# Altium footprint library Robsense_lxxu.PcbLib: 67 footprints (part 4 of 5)
Each footprint in its own frame and in the unit in brackets; x right, y up, seen from the top. Pads: shape width x height; smd on the part's side, far side on the other; paste and mask are expansions set on the pad; w line width, h text height; cw(c..) or ccw(c..) is an arc to the next point about the centre after c.
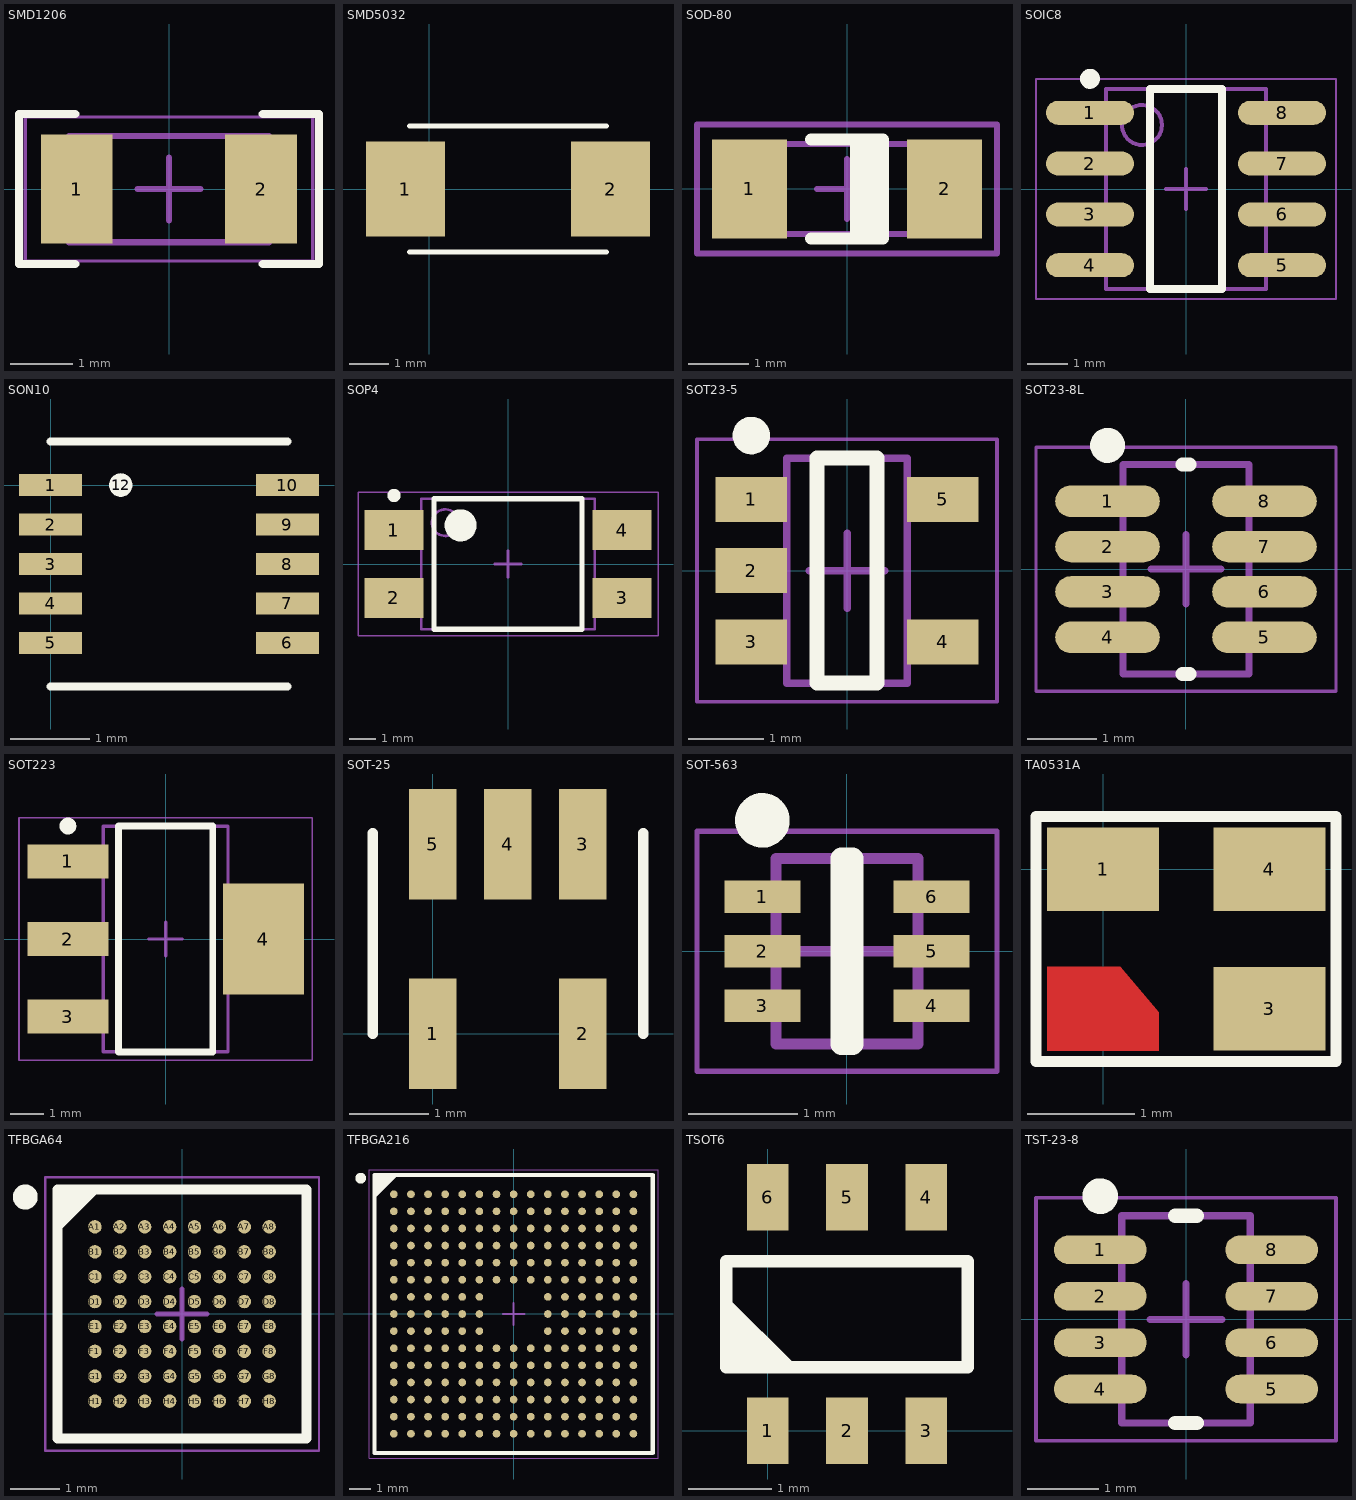
[diagram p3: the footprints below, top view; thin cyan lines are the x and y axes]

## SMD1206 [mm] "Chip Resistor, 2-Leads, Body 3.10x1.55mm, IPC Medium Density"
height 0.7
pads (2):
  rect 1.15x1.75 smd: 1(-1.475,0) 2(1.475,0)
Top Overlay:
  lines w0.13: -1.5,-1.2 -2.4,-1.2 -2.4,1.2 -1.5,1.2 ; 1.5,-1.2 2.4,-1.2 2.4,1.2 1.5,1.2
Mechanical 13:
  lines w0.1: -1.6,-0.85 -1.6,0.85 1.6,0.85 1.6,-0.85 -1.6,-0.85
Mechanical 15:
  lines w0.05: -2.3,-1.15 -2.3,1.15 2.3,1.15 2.3,-1.15 -2.3,-1.15
  lines w0.1: -0.5,0 0.5,0 ; 0,-0.5 0,0.5
3D body: height 0.7, standoff 0, extent -1.15,-0.85 1.15,0.85
3D body: height 0.7, standoff 0, extent -1.6,-0.85 -1.15,0.85
3D body: height 0.7, standoff 0, extent 1.15,-0.85 1.6,0.85

## SMD5032 [mm]
pads (2):
  rect 2x2.4 smd: 1(-0.6,0) 2(4.6,0)
Top Overlay:
  lines w0.13: -0.5,-1.6 4.5,-1.6 ; -0.5,1.6 4.5,1.6
3D body: height 1, standoff 0.1, extent -0.508,-1.651 4.572,1.651

## SOD-80 [mm] "MELF Diode, 2-Leads, Body 3.5x1.4mm, IPC Medium Density"
height 1.5
pads (2):
  rect 1.25x1.65 smd: 1(-1.625,0) 2(1.625,0)
Top Overlay:
  rectangle: 0.05,-0.825 0.6,0.825
  lines w0.2: -0.6,-0.825 0.6,-0.825 0.6,0.825 -0.6,0.825
Mechanical 13:
  rectangle: 1.352,-0.75 1.85,0.75
  lines w0.1: -1.85,-0.75 1.85,-0.75 1.85,0.75 -1.85,0.75 -1.85,-0.75
Mechanical 15:
  lines w0.1: -0.5,0 0.5,0 ; 0,-0.5 0,0.5 ; -2.5,-1.075 2.5,-1.075 2.5,1.075 -2.5,1.075 -2.5,-1.075
3D body: height 1.5, standoff 0, extent -1.85,-0.75 1.85,0.75

## SOIC8 [mm] "SOIC, 8-Leads, Body 4.90x3.90mm, Pitch 1.27mm, IPC Medium Density"
height 1.5
pads (8):
  oval 2.2x0.6 smd: 1(-2.4,1.905) 2(-2.4,0.635) 3(-2.4,-0.635) 4(-2.4,-1.905) 5(2.4,-1.905) 6(2.4,-0.635) 7(2.4,0.635) 8(2.4,1.905)
Top Overlay:
  circle w0.25: c-2.4,2.755 r0.125
  lines w0.2: -0.9,-2.5 -0.9,2.5 0.9,2.5 0.9,-2.5 -0.9,-2.5
Mechanical 13:
  circle w0.1: c-1.1,1.6 r0.5
  lines w0.1: -2,-2.5 -2,2.5 2,2.5 2,-2.5 -2,-2.5
Mechanical 15:
  lines w0.05: -3.75,-2.75 -3.75,2.75 3.75,2.75 3.75,-2.75 -3.75,-2.75
  lines w0.1: -0.5,0 0.5,0 ; 0,-0.5 0,0.5
3D body: height 1.5, standoff 0.1, extent -2,-2.5 2,2.5

## SON10 [mm]
pads (11):
  rect 0.8x0.28 smd: 1(0,0) 2(0,-0.5) 3(0,-1) 4(0,-1.5) 5(0,-2) 6(3,-2) 7(3,-1.5) 8(3,-1) 9(3,-0.5) 10(3,0)
  round 0.3 on Top Overlay: 12(0.889,0)
Top Overlay:
  lines w0.1: 0,-2.55 3,-2.55 ; 0,0.55 3,0.55
3D body: height 0.8, standoff 0.1, extent 0,-2.54 3.048,0.635

## SOP4 [mm]
height 4
pads (4):
  rect 2.2x1.5 smd: 1(-4.275,1.27) 2(-4.275,-1.27) 3(4.275,-1.27) 4(4.275,1.27)
Top Overlay:
  circle w0.6: c-1.775,1.45 r0.3
  circle w0.25: c-4.275,2.57 r0.125
  lines w0.2: -2.775,-2.45 2.775,-2.45 2.775,2.45 -2.775,2.45 -2.775,-2.45
Mechanical 13:
  circle w0.1: c-2.35,1.55 r0.5
  lines w0.1: -3.25,-2.45 3.25,-2.45 3.25,2.45 -3.25,2.45 -3.25,-2.45
Mechanical 15:
  lines w0.05: -5.625,-2.7 5.625,-2.7 5.625,2.7 -5.625,2.7 -5.625,-2.7
  lines w0.1: -0.5,0 0.5,0 ; 0,-0.5 0,0.5
3D body: height 4, standoff 0.2, extent -3.25,-2.45 3.25,2.45

## SOT23-5 [mm] "SOT23, 5-Leads, Body 2.90x2.80mm, Pitch 0.95mm, IPC Medium Density"
height 1.4
pads (5):
  rect 0.95x0.6 smd: 1(-1.275,0.95) 2(-1.275,0) 3(-1.275,-0.95) 4(1.275,-0.95) 5(1.275,0.95)
Top Overlay:
  circle w0.25: c-1.275,1.8 r0.125
  lines w0.2: -0.4,-1.5 -0.4,1.5 0.4,1.5 0.4,-1.5 -0.4,-1.5
Mechanical 13:
  lines w0.1: -0.805,-1.5 0.805,-1.5 0.805,1.5 -0.805,1.5 -0.805,-1.5
Mechanical 15:
  lines w0.05: -2,-1.75 2,-1.75 2,1.75 -2,1.75 -2,-1.75
  lines w0.1: -0.5,0 0.5,0 ; 0,-0.5 0,0.5
3D body: height 1.4, standoff 0.2, extent -0.805,-1.5 0.805,1.5

## SOT23-8L [mm] "TSOP, 8-Leads, Body 2.90x1.63mm, Pitch 0.65mm, IPC Medium Density"
height 1.1
pads (8):
  oval 1.5x0.45 smd: 1(-1.125,0.975) 2(-1.125,0.325) 3(-1.125,-0.325) 4(-1.125,-0.975) 5(1.125,-0.975) 6(1.125,-0.325) 7(1.125,0.325) 8(1.125,0.975)
Top Overlay:
  circle w0.25: c-1.125,1.775 r0.125
  lines w0.2: -0.05,-1.5 0.05,-1.5 ; -0.05,1.5 0.05,1.5
Mechanical 13:
  lines w0.1: -0.9,-1.5 0.9,-1.5 0.9,1.5 -0.9,1.5 -0.9,-1.5
Mechanical 15:
  lines w0.05: -2.15,-1.75 2.15,-1.75 2.15,1.75 -2.15,1.75 -2.15,-1.75
  lines w0.1: -0.5,0 0.5,0 ; 0,-0.5 0,0.5
3D body: height 1.1, standoff 0.1, extent -0.9,-1.5 0.9,1.5

## SOT223 [mm] "SOT223, 4-Leads, Body 6.50x7.00mm (avg), Pitch 2.30mm, IPC Medium Density"
height 1.8
pads (4):
  rect 2.4x1 smd: 1(-2.9,2.3) 2(-2.9,0) 3(-2.9,-2.3)
  rect 2.4x3.3 smd: 4(2.9,0)
Top Overlay:
  circle w0.25: c-2.9,3.35 r0.125
  lines w0.2: -1.4,-3.35 -1.4,3.35 1.4,3.35 1.4,-3.35 -1.4,-3.35
Mechanical 13:
  lines w0.1: -1.85,-3.35 -1.85,3.35 1.85,3.35 1.85,-3.35 -1.85,-3.35
Mechanical 15:
  lines w0.05: -4.35,-3.6 -4.35,3.6 4.35,3.6 4.35,-3.6 -4.35,-3.6
  lines w0.1: -0.5,0 0.5,0 ; 0,-0.5 0,0.5
3D body: height 1.8, standoff 0.02, extent -1.85,-3.35 1.85,3.35

## SOT-25 [mm]
pads (5):
  rect 0.6x1.4 smd: 1(0,0) 2(1.9,0) 3(1.9,2.4) 4(0.95,2.4) 5(0,2.4)
Top Overlay:
  lines w0.13: -0.762,0 -0.762,2.54 ; 2.667,0 2.667,2.54

## SOT-563 [mm] "SOT23, 6-Leads, Body 1.60x1.60mm, Pitch 0.50mm, IPC Medium Density"
height 0.55
pads (6):
  rect 0.7x0.3 smd: 1(-0.775,0.5) 2(-0.775,0) 3(-0.775,-0.5) 4(0.775,-0.5) 5(0.775,0) 6(0.775,0.5)
Top Overlay:
  circle w0.25: c-0.775,1.2 r0.125
  lines w0.2: -0.05,-0.85 0.05,-0.85 0.05,0.85 -0.05,0.85 -0.05,-0.85
Mechanical 13:
  lines w0.1: -0.65,-0.85 -0.65,0.85 0.65,0.85 0.65,-0.85 -0.65,-0.85
Mechanical 15:
  lines w0.05: -1.375,-1.1 -1.375,1.1 1.375,1.1 1.375,-1.1 -1.375,-1.1
  lines w0.1: -0.5,0 0.5,0 ; 0,-0.5 0,0.5
3D body: height 0.55, standoff 0.05, extent -0.65,-0.85 0.65,0.85

## TA0531A [mm]
pads (3):
  rect 1.04x0.78 smd mask+0.1: 1(0,0) 3(1.55,-1.3) 4(1.55,0)
Top Layer:
  region: -0.52,-1.69 0.52,-1.69 0.52,-1.33 0.16,-0.91 -0.52,-0.91
Top Overlay:
  lines w0.1: -0.624,-1.79 -0.624,0.49 ; -0.62,-1.79 2.17,-1.79 2.17,0.49 -0.62,0.49

## TFBGA64 [mm]
height 1
pads (64):
  round 0.27 smd: A1(-1.75,1.75) A2(-1.25,1.75) A3(-0.75,1.75) A4(-0.25,1.75) A5(0.25,1.75) A6(0.75,1.75) A7(1.25,1.75) A8(1.75,1.75) B1(-1.75,1.25) B2(-1.25,1.25) B3(-0.75,1.25) B4(-0.25,1.25) B5(0.25,1.25) B6(0.75,1.25) B7(1.25,1.25) B8(1.75,1.25) C1(-1.75,0.75) C2(-1.25,0.75) C3(-0.75,0.75) C4(-0.25,0.75) C5(0.25,0.75) C6(0.75,0.75) C7(1.25,0.75) C8(1.75,0.75) D1(-1.75,0.25) D2(-1.25,0.25) D3(-0.75,0.25) D4(-0.25,0.25) D5(0.25,0.25) D6(0.75,0.25) D7(1.25,0.25) D8(1.75,0.25) E1(-1.75,-0.25) E2(-1.25,-0.25) E3(-0.75,-0.25) E4(-0.25,-0.25) E5(0.25,-0.25) E6(0.75,-0.25) E7(1.25,-0.25) E8(1.75,-0.25) F1(-1.75,-0.75) F2(-1.25,-0.75) F3(-0.75,-0.75) F4(-0.25,-0.75) F5(0.25,-0.75) F6(0.75,-0.75) F7(1.25,-0.75) F8(1.75,-0.75) G1(-1.75,-1.25) G2(-1.25,-1.25) G3(-0.75,-1.25) G4(-0.25,-1.25) G5(0.25,-1.25) G6(0.75,-1.25) G7(1.25,-1.25) G8(1.75,-1.25) H1(-1.75,-1.75) H2(-1.25,-1.75) H3(-0.75,-1.75) H4(-0.25,-1.75) H5(0.25,-1.75) H6(0.75,-1.75) H7(1.25,-1.75) H8(1.75,-1.75)
Top Overlay:
  circle w0.25: c-3.15,2.35 r0.125
  region: -1.757,2.5 -2.5,1.757 -2.5,2.5
  lines w0.2: -2.5,1.757 -1.757,2.5 ; -2.5,-2.5 2.5,-2.5 2.5,2.5 -2.5,2.5 -2.5,-2.5
Mechanical 13:
  lines w0.1: -2.5,-2.5 2.5,-2.5 2.5,2.5 -2.5,2.5 -2.5,-2.5
Mechanical 15:
  lines w0.05: -2.75,-2.75 2.75,-2.75 2.75,2.75 -2.75,2.75 -2.75,-2.75
  lines w0.1: -0.5,0 0.5,0 ; 0,-0.5 0,0.5
3D body: height 1, standoff 0.2, extent -2.5,-2.5 2.5,2.5

## TFBGA216 [mm] "BGA, 225-Leads, Body 13.00x13.00mmx1.00mm, Pitch 0.80mm"
height 1
pads (216):
  round 0.36 smd: A1(-5.6,5.6) A2(-4.8,5.6) A3(-4,5.6) A4(-3.2,5.6) A5(-2.4,5.6) A6(-1.6,5.6) A7(-0.8,5.6) A8(0,5.6) A9(0.8,5.6) A10(1.6,5.6) A11(2.4,5.6) A12(3.2,5.6) A13(4,5.6) A14(4.8,5.6) A15(5.6,5.6) B1(-5.6,4.8) B2(-4.8,4.8) B3(-4,4.8) B4(-3.2,4.8) B5(-2.4,4.8) B6(-1.6,4.8) B7(-0.8,4.8) B8(0,4.8) B9(0.8,4.8) B10(1.6,4.8) B11(2.4,4.8) B12(3.2,4.8) B13(4,4.8) B14(4.8,4.8) B15(5.6,4.8) C1(-5.6,4) C2(-4.8,4) C3(-4,4) C4(-3.2,4) C5(-2.4,4) C6(-1.6,4) C7(-0.8,4) C8(0,4) C9(0.8,4) C10(1.6,4) C11(2.4,4) C12(3.2,4) C13(4,4) C14(4.8,4) C15(5.6,4) D1(-5.6,3.2) D2(-4.8,3.2) D3(-4,3.2) D4(-3.2,3.2) D5(-2.4,3.2) D6(-1.6,3.2) D7(-0.8,3.2) D8(0,3.2) D9(0.8,3.2) D10(1.6,3.2) D11(2.4,3.2) D12(3.2,3.2) D13(4,3.2) D14(4.8,3.2) D15(5.6,3.2) E1(-5.6,2.4) E2(-4.8,2.4) E3(-4,2.4) E4(-3.2,2.4) E5(-2.4,2.4) E6(-1.6,2.4) E7(-0.8,2.4) E8(0,2.4) E9(0.8,2.4) E10(1.6,2.4) E11(2.4,2.4) E12(3.2,2.4) E13(4,2.4) E14(4.8,2.4) E15(5.6,2.4) F1(-5.6,1.6) F2(-4.8,1.6) F3(-4,1.6) F4(-3.2,1.6) F5(-2.4,1.6) F6(-1.6,1.6) F7(-0.8,1.6) F8(0,1.6) F9(0.8,1.6) F10(1.6,1.6) F11(2.4,1.6) F12(3.2,1.6) F13(4,1.6) F14(4.8,1.6) F15(5.6,1.6) G1(-5.6,0.8) G2(-4.8,0.8) G3(-4,0.8) G4(-3.2,0.8) G5(-2.4,0.8) G6(-1.6,0.8) G10(1.6,0.8) G11(2.4,0.8) G12(3.2,0.8) G13(4,0.8) G14(4.8,0.8) G15(5.6,0.8) H1(-5.6,0) H2(-4.8,0) H3(-4,0) H4(-3.2,0) H5(-2.4,0) H6(-1.6,0) H10(1.6,0) H11(2.4,0) H12(3.2,0) H13(4,0) H14(4.8,0) H15(5.6,0) J1(-5.6,-0.8) J2(-4.8,-0.8) J3(-4,-0.8) J4(-3.2,-0.8) J5(-2.4,-0.8) J6(-1.6,-0.8) J10(1.6,-0.8) J11(2.4,-0.8) J12(3.2,-0.8) J13(4,-0.8) J14(4.8,-0.8) J15(5.6,-0.8) K1(-5.6,-1.6) K2(-4.8,-1.6) K3(-4,-1.6) K4(-3.2,-1.6) K5(-2.4,-1.6) K6(-1.6,-1.6) K7(-0.8,-1.6) K8(0,-1.6) K9(0.8,-1.6) K10(1.6,-1.6) K11(2.4,-1.6) K12(3.2,-1.6) K13(4,-1.6) K14(4.8,-1.6) K15(5.6,-1.6) L1(-5.6,-2.4) L2(-4.8,-2.4) L3(-4,-2.4) L4(-3.2,-2.4) L5(-2.4,-2.4) L6(-1.6,-2.4) L7(-0.8,-2.4) L8(0,-2.4) L9(0.8,-2.4) L10(1.6,-2.4) L11(2.4,-2.4) L12(3.2,-2.4) L13(4,-2.4) L14(4.8,-2.4) L15(5.6,-2.4) M1(-5.6,-3.2) M2(-4.8,-3.2) M3(-4,-3.2) M4(-3.2,-3.2) M5(-2.4,-3.2) M6(-1.6,-3.2) M7(-0.8,-3.2) M8(0,-3.2) M9(0.8,-3.2) M10(1.6,-3.2) M11(2.4,-3.2) M12(3.2,-3.2) M13(4,-3.2) M14(4.8,-3.2) M15(5.6,-3.2) N1(-5.6,-4) N2(-4.8,-4) N3(-4,-4) N4(-3.2,-4) N5(-2.4,-4) N6(-1.6,-4) N7(-0.8,-4) N8(0,-4) N9(0.8,-4) N10(1.6,-4) N11(2.4,-4) N12(3.2,-4) N13(4,-4) N14(4.8,-4) N15(5.6,-4) P1(-5.6,-4.8) P2(-4.8,-4.8) P3(-4,-4.8) P4(-3.2,-4.8) P5(-2.4,-4.8) P6(-1.6,-4.8) P7(-0.8,-4.8) P8(0,-4.8) P9(0.8,-4.8) P10(1.6,-4.8) P11(2.4,-4.8) P12(3.2,-4.8) P13(4,-4.8) P14(4.8,-4.8) P15(5.6,-4.8) R1(-5.6,-5.6) R2(-4.8,-5.6) R3(-4,-5.6) R4(-3.2,-5.6) R5(-2.4,-5.6) R6(-1.6,-5.6) R7(-0.8,-5.6) R8(0,-5.6) R9(0.8,-5.6) R10(1.6,-5.6) R11(2.4,-5.6) R12(3.2,-5.6) R13(4,-5.6) R14(4.8,-5.6) R15(5.6,-5.6)
Top Overlay:
  circle w0.25: c-7.15,6.35 r0.125
  region: -5.52,6.5 -6.5,5.52 -6.5,6.5
  lines w0.2: -6.5,5.52 -5.52,6.5 ; -6.5,-6.5 -6.5,6.5 6.5,6.5 6.5,-6.5 -6.5,-6.5
Mechanical 13:
  lines w0.1: -6.5,-6.5 -6.5,6.5 6.5,6.5 6.5,-6.5 -6.5,-6.5
Mechanical 15:
  lines w0.05: -6.75,-6.75 -6.75,6.75 6.75,6.75 6.75,-6.75 -6.75,-6.75
  lines w0.1: -0.5,0 0.5,0 ; 0,-0.5 0,0.5
3D body: height 1, standoff 0.2, extent -6.5,-6.5 6.5,6.5

## TSOT6 [mm]
pads (6):
  rect 0.5x0.8 smd: 1(0,0) 2(0.95,0) 3(1.9,0) 4(1.9,2.8) 5(0.95,2.8) 6(0,2.8)
Top Overlay:
  lines w0.15: -0.5,1.016 -0.5,1.008 -0.254,0.762 ; -0.5,1.143 -0.5,1.135 -0.127,0.762 ; -0.5,1.27 -0.5,1.262 0,0.762 ; -0.5,1.397 -0.5,1.389 0.127,0.762 ; -0.5,1.524 -0.5,1.516 0.254,0.762 ; -0.5,0.762 -0.5,2.032 2.4,2.032 2.4,0.762 -0.5,0.762

## TST-23-8 [mm] "TSOP, 8-Leads, Body 2.90x1.63mm, Pitch 0.65mm, IPC Medium Density"
height 1
pads (8):
  oval 1.3x0.4 smd: 1(-1.2,0.975) 2(-1.2,0.325) 3(-1.2,-0.325) 4(-1.2,-0.975) 5(1.2,-0.975) 6(1.2,-0.325) 7(1.2,0.325) 8(1.2,0.975)
Top Overlay:
  circle w0.25: c-1.2,1.725 r0.125
  lines w0.2: -0.15,-1.45 0.15,-1.45 ; -0.15,1.45 0.15,1.45
Mechanical 13:
  lines w0.1: -0.9,-1.45 -0.9,1.45 0.9,1.45 0.9,-1.45 -0.9,-1.45
Mechanical 15:
  lines w0.05: -2.1,-1.7 -2.1,1.7 2.1,1.7 2.1,-1.7 -2.1,-1.7
  lines w0.1: -0.5,0 0.5,0 ; 0,-0.5 0,0.5
3D body: height 1, standoff 0.2, extent -0.9,-1.45 0.9,1.45